# Altium footprint library 10mm_Y1_SurgeCAP_THT.PcbLib: 1 footprints
Each footprint in its own frame and in the unit in brackets; x right, y up, seen from the top. Pads: shape width x height; smd on the part's side, far side on the other; paste and mask are expansions set on the pad; w line width, h text height; cw(c..) or ccw(c..) is an arc to the next point about the centre after c.
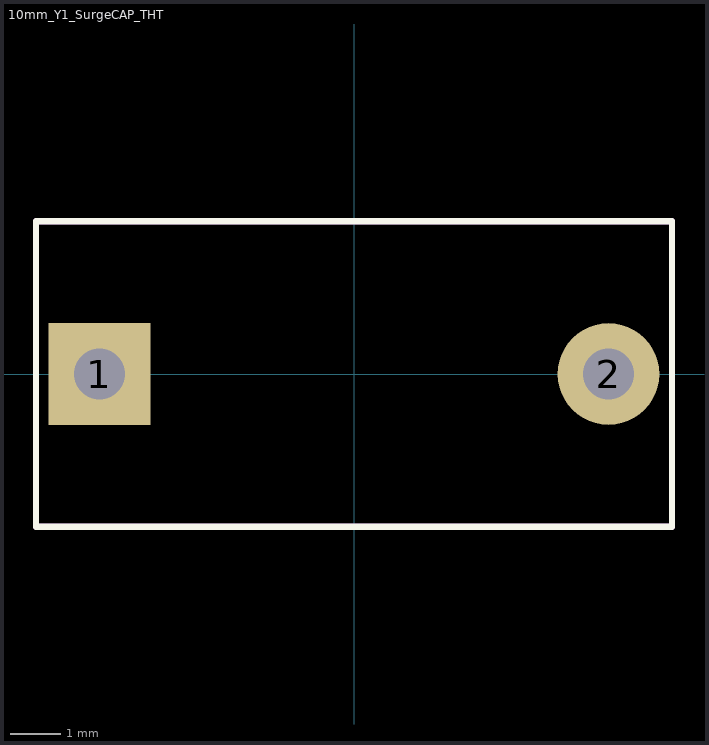
[diagram p0: the footprint, top view; thin cyan lines are the x and y axes]

## 10mm_Y1_SurgeCAP_THT [mm] "10mm_Y1_SurgeCAP_THT"
pads (2):
  rect 2x2 hole 1 paste-1000 mask+0: 1(-5,0)
  round 2 hole 1 paste-1000 mask+0: 2(5,0)
Top Overlay:
  lines w0.12: -6.25,-3 6.25,-3 6.25,3 -6.25,3 -6.25,-3
Mechanical 1:
  lines w0.12: -6.25,-3 -6.25,3 6.25,3 6.25,-3 -6.25,-3
  text ".Designator" at 0,0.376 h2
Mechanical 15:
  text "+" at -0.666,-1 h2
3D body "Y1_8x5_10mm.STEP": height 9.49, standoff -2, extent -5.413,-2.973 5.413,2.973